# Altium integrated library Luxlogger_V2.IntLib: 32 symbols
Pins are listed as number, name and electrical type; pins without a type are passive.

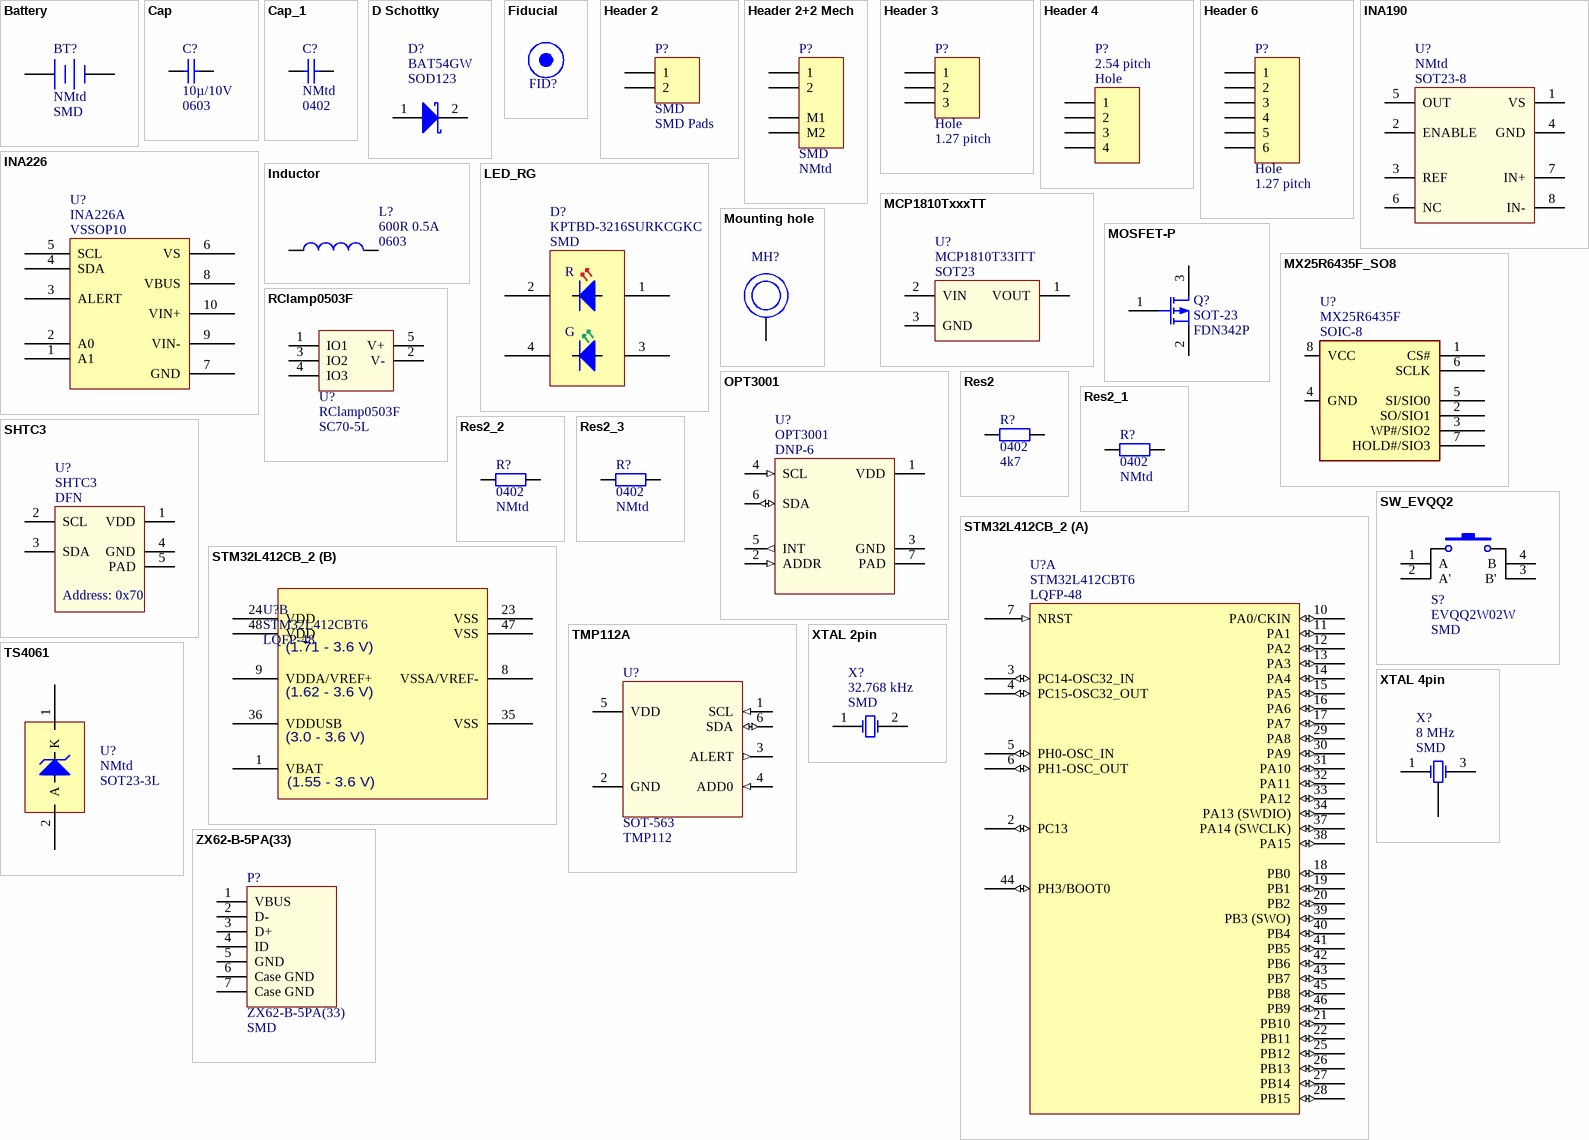
[diagram p0: symbols Battery to ZX62-B-5PA(33)]

## Battery
designator BT?, comment Specification: NMtd  Package: SMD  (hidden comment: Alternative BU2032SM-JJ-GTR)
CR2032 holder; Manufacturer PN: BU2032SM-HD-G; Manufacturer: MPD
footprint BU2032SM-HD-G (CR2032 battery holder)
pins: 1 +, 2 -

## Cap
designator C?  Specification: 10µ/10V  Package: 0603
Capacitor
footprint CAP0603 (Chip Capacitor, 2-Leads, Body 1,60x0,80mm, IPC Medium Density)
pins: 1, 2

## Cap_1
designator C?, comment Specification: NMtd  Package: 0402  (hidden comment: 100n/10V)
Capacitor
footprint CAP0402 (Chip Capacitor, 2-Leads, Body 1,00x0,50mm, IPC Medium Density)
pins: 1, 2

## D Schottky
designator D?, comment Package: SOD123  Specification: BAT54GW  (hidden comment: Alternative ON BAT54T1GOSCT-ND)
Schottky Diode; Manufacturer: NEXPERIA; Manufacturer PN: BAT54GW
footprint SOD123 SODFL360X130-2N (SODFL, 2-Leads, Body 1,60x3,60mm, IPC Medium Density)
pins: 1 A, 2 K

## Fiducial
designator FID?  (value not drawn)  (no BOM)
footprint FIDUCIAL_01
footprint FIDUCIAL_02_small

## Header 2
designator P?  Package: SMD  Specification: SMD Pads  (no BOM)
Header, 2-Pin
signal-integrity model Connector
footprint 2x1 blank pads_2 (2x1 blank pads)
pins: 1, 2

## Header 2+2 Mech
designator P?  Package: SMD  Specification: NMtd  (no BOM)
Header, 2-Pin, 2 mech pins; Manufacturer: JST; Manufacturer PN: S2B-PH-SM4-TB(LF)(SN)
footprint JST_S2B-PH-SM4-TB (JST 2 pin 2 mm horisontal)
pins: 1, 2, 3 M1, 4 M2

## Header 3
designator P?  Package: Hole  Specification: 1.27 pitch  (no BOM)
Header, 3-Pin
footprint Header 1x3 1.27 (Header 1x3x1.27)
pins: 1, 2, 3

## Header 4
designator P?  Specification: 2.54 pitch  Package: Hole  (no BOM)
Header, 4-Pin
footprint Header 1x4 2.54 (Header 1x4x2.54)
pins: 1, 2, 3, 4

## Header 6
designator P?  Package: Hole  Specification: 1.27 pitch  (no BOM)
Header, 6-Pin
footprint Header 1x6 1.27 (Header 1x6x1.27)
pins: 1, 2, 3, 4, 5, 6

## INA190
designator U?  Package: SOT23-8  Specification: NMtd
Current amplifier; Manufacturer: TI; Manufacturer PN: INA190A1IDDF
footprint SOT23-8 (SOT23, 8-Leads)
pins: 1 VS, 2 ENABLE, 3 REF, 4 GND, 5 OUT, 6 NC, 7 IN+, 8 IN-

## INA226
designator U?  Package: VSSOP10  Specification: INA226A
Current and power monitor; Manufacturer PN: INA226AIDGS; Manufacturer: TI
footprint VSSOP-10
pins: 1 A1, 2 A0, 3 ALERT, 4 SDA, 5 SCL, 6 VS, 7 GND, 8 VBUS, 9 VIN-, 10 VIN+

## Inductor
designator L?  Specification: 600R 0.5A  Package: 0603
Inductor; Manufacturer PN: BLM18AG601SN1D; Manufacturer: MURATA
footprint CAP0603 (Chip Capacitor, 2-Leads, Body 1,60x0,80mm, IPC Medium Density)
pins: 1, 2

## LED_RG
designator D?  Package: SMD  Specification: KPTBD-3216SURKCGKC
Red/green LED; Manufacturer: KINGBRIGHT; Manufacturer PN: KPTBD-3216SURKCGKC
footprint KPTBD-3216SURKCGKC (Kingbright red/green LED)
pins: 1 R_A, 2 R_K, 3 G_A, 4 G_K
text: R; G

## MCP1810TxxxTT
designator U?  Specification: MCP1810T33ITT  Package: SOT23
3V3 LDO low iq; Manufacturer: MICROCHIP; Manufacturer PN: MCP1810T33ITT
footprint SOT23-3 (SOT23, 3-Leads, Body 2,90x2,80mm, Pitch 0,95mm, IPC Medium Density)
pins: 1 VOUT (power), 2 VIN, 3 GND (power)

## MOSFET-P
designator Q?  Package: SOT-23  Specification: FDN342P
P-Channel MOSFET; Manufacturer: ON; Manufacturer PN: FDN342P
footprint SOT23-3 (SOT23, 3-Leads, Body 2,90x2,80mm, Pitch 0,95mm, IPC Medium Density)
pins: 1 G, 2 S, 3 D

## Mounting hole
designator MH?  (value not drawn)  (no BOM)
footprint HOLE_PLATED_3300um (Mounting hole for M3)
footprint HOLE_PLATED_2900um
footprint HOLE_PLATED_2300um (Mounting hole for M2.5)
pins: 1

## MX25R6435F_SO8
designator U?  Package: SOIC-8  Specification: MX25R6435F
ULTRA LOW POWER, 64M-BIT FLASH MEMORY; Manufacturer: Macronix; Manufacturer PN: MX25R6435FM2IL0
footprint SO_8_W
pins: 1 CS#, 2 SO/SIO1, 3 WP#/SIO2, 4 GND, 5 SI/SIO0, 6 SCLK, 7 HOLD#/SIO3, 8 VCC

## OPT3001
designator U?  Specification: OPT3001  Package: DNP-6
Lux sensor; Manufacturer: TI; Manufacturer PN: OPT3001DNP
footprint OPT3001 (Lux sensor)
pins: 1 VDD (power), 2 ADDR (in), 3 GND (power), 4 SCL (in), 5 INT (out), 6 SDA (io), 7 PAD (power)

## RClamp0503F
designator U?  Package: SC70-5L  Specification: RClamp0503F
TVS array USB; Manufacturer: SEMTECH; Manufacturer PN: RClamp0503F.TCT
footprint SC-70 5L
pins: 1 IO1 (power), 2 V- (power), 3 IO2 (power), 4 IO3 (power), 5 V+ (power)

## Res2
designator R?  Package: 0402  Specification: 4k7
Resistor
footprint RES0402 (Chip Resistor, 2-Leads, Body 1,05x0,54mm, IPC Medium Density)
pins: 1, 2

## Res2_1
designator R?, comment Package: 0402  Specification: NMtd  (hidden comment: 0R)
Resistor
footprint RES0402 (Chip Resistor, 2-Leads, Body 1,05x0,54mm, IPC Medium Density)
pins: 1, 2

## Res2_2
designator R?, comment Package: 0402  Specification: NMtd  (hidden comment: 100k 0.1%)
Resistor
footprint RES0402 (Chip Resistor, 2-Leads, Body 1,05x0,54mm, IPC Medium Density)
pins: 1, 2

## Res2_3
designator R?, comment Package: 0402  Specification: NMtd  (hidden comment: 10k 0.1%)
Resistor
footprint RES0402 (Chip Resistor, 2-Leads, Body 1,05x0,54mm, IPC Medium Density)
pins: 1, 2

## SHTC3
designator U?  Specification: SHTC3  Package: DFN
SHTC3 RH sensor; Manufacturer: SENSIRION; Manufacturer PN: SHTC3
footprint SHTC3
pins: 1 VDD, 2 SCL, 3 SDA, 4 GND, 5 PAD
text: Address: 0x70

## STM32L412CB_2
designator U?  Specification: STM32L412CBT6  Package: LQFP-48
MCU; Manufacturer: ST; Manufacturer PN: STM32L412CBT6
footprint TSQFP50P900X900X160-48N (TSQFP, 48-Leads, Body 7,00x7,00mm, Pitch 0,50mm, IPC Medium Density)
part A pins: 2 PC13 (io), 3 PC14-OSC32_IN (io) "PC14-OSC32_IN (PC14)", 4 PC15-OSC32_OUT (io) "PC15-OSC32_OUT (PC15)", 5 PH0-OSC_IN (io) "PH0-OSC_IN (PH0)", 6 PH1-OSC_OUT (io) "PH1-OSC_OUT (PH1)", 7 NRST (in), 10 PA0/CKIN (io) "PA0", 11 PA1 (io), 12 PA2 (io), 13 PA3 (io), 14 PA4 (io), 15 PA5 (io), 16 PA6 (io), 17 PA7 (io), 18 PB0 (io), 19 PB1 (io), 20 PB2 (io), 21 PB10 (io), 22 PB11 (io), 25 PB12 (io), 26 PB13 (io), 27 PB14 (io), 28 PB15 (io), 29 PA8 (io), 30 PA9 (io), 31 PA10 (io), 32 PA11 (io), 33 PA12 (io), 34 PA13 (SWDIO) (io) "PA13 (JTMS/SWDIO)", 37 PA14 (SWCLK) (io) "PA14 (JTCK/SWCLK)", 38 PA15 (io) "PA15 (JTDI)", 39 PB3 (SWO) (io) "PB3 (JTDO/TRACESWO)", 40 PB4 (io) "PB4 (NJTRST)", 41 PB5 (io), 42 PB6 (io), 43 PB7 (io), 44 PH3/BOOT0 (io) "PH3-BOOT0 (BOOT0)", 45 PB8 (io), 46 PB9 (io)
part B pins: 1 VBAT (power), 8 VSSA/VREF- (power), 9 VDDA/VREF+ (power), 23 VSS (power), 24 VDD (power), 35 VSS (power), 36 VDDUSB (power), 47 VSS (power), 48 VDD (power)
part B text: (1.71 - 3.6 V); (1.62 - 3.6 V); (3.0 - 3.6 V); (1.55 - 3.6 V)

## SW_EVQQ2
designator S?  Specification: EVQQ2W02W  Package: SMD
Switch; Manufacturer: PANASONIC; Manufacturer PN: EVQQ2W02W
footprint EVQQ2W02W (Switch)
pins: 1 A, 2 A', 3 B', 4 B

## TMP112A
designator U?  Package: SOT-563  Specification: TMP112
Temp_Sensor; Manufacturer: TI; Manufacturer PN: TMP112AIDR
footprint SOTFL50P160X60-6N (SOTFL, 6-Leads, Body 1,60x1,60mm, Pitch 0,50mm, IPC Medium Density)
pins: 1 SCL (in), 2 GND (power), 3 ALERT (out), 4 ADD0 (in), 5 VDD (power), 6 SDA (io)

## TS4061
designator U?  Package: SOT23-3L  Specification: NMtd
Shunt voltage reference; Manufacturer PN: TS4061BILT-1.225; Manufacturer: ST
footprint SOT23-3 (SOT23, 3-Leads, Body 2,90x2,80mm, Pitch 0,95mm, IPC Medium Density)
pins: 1 K, 2 A

## XTAL 2pin
designator X?  Package: SMD  Specification: 32.768 kHz
32.768 kHz Crystal; Manufacturer: EPSON; Manufacturer PN: FC-135 32.7680KA-A5
footprint FC-135 (Epson crystal)
pins: 1 OSC1, 2 OSC2

## XTAL 4pin
designator X?  Specification: 8 MHz  Package: SMD
Crystal; Manufacturer: ABRACON; Manufacturer PN: ABM3B-8.000MHZ-B2-T
footprint ABM3B
pins: 1 OSC1, 2 GND, 3 OSC2, 4 GND

## ZX62-B-5PA(33)
designator P?  Specification: ZX62-B-5PA(33)  Package: SMD
USB Connector; Manufacturer: Hirose; Manufacturer PN: ZX62-B-5PA(33)
footprint ZX62-B-5PA(33) (USB Micro B)
pins: 1 VBUS (power), 2 D-, 3 D+, 4 ID, 5 GND (power), 6 Case GND (power), 7 Case GND